# Altium schematic symbol library 74HC595BQ,115.Schlib: 1 symbol
Pins are listed as number, name and electrical type; pins without a type are passive.

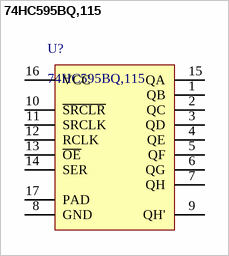
[diagram p0: symbol 74HC595BQ,115]

## 74HC595BQ,115
designator U?
Shift Shift Register 1 Element 8 Bit 16-DHVQFN (2.5x3.5)
pins: 1 QB, 2 QC, 3 QD, 4 QE, 5 QF, 6 QG, 7 QH, 8 GND, 9 QH', 10 ~{SRCLR}, 11 SRCLK, 12 RCLK, 13 ~{OE}, 14 SER, 15 QA, 16 VCC, 17 PAD